# Altium footprint library AD8334ACPZ.PcbLib: 1 footprints
Each footprint in its own frame and in the unit in brackets; x right, y up, seen from the top. Pads: shape width x height; smd on the part's side, far side on the other; paste and mask are expansions set on the pad; w line width, h text height; cw(c..) or ccw(c..) is an arc to the next point about the centre after c.
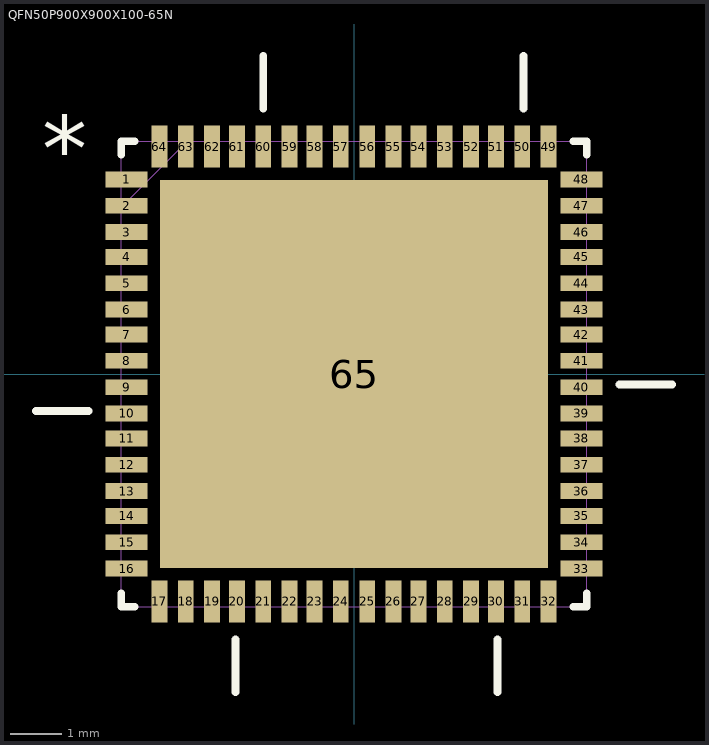
[diagram p0: the footprint, top view; thin cyan lines are the x and y axes]

## QFN50P900X900X100-65N [mil]
pads (65):
  rect 32x12 smd: 1(-173,148) 2(-173,128) 3(-173,108) 4(-173,89) 5(-173,69) 6(-173,49) 7(-173,30) 8(-173,10) 9(-173,-10) 10(-173,-30) 11(-173,-49) 12(-173,-69) 13(-173,-89) 14(-173,-108) 15(-173,-128) 16(-173,-148) 33(173,-148) 34(173,-128) 35(173,-108) 36(173,-89) 37(173,-69) 38(173,-49) 39(173,-30) 40(173,-10) 41(173,10) 42(173,30) 43(173,49) 44(173,69) 45(173,89) 46(173,108) 47(173,128) 48(173,148)
  rect 12x32 smd: 17(-148,-173) 18(-128,-173) 19(-108,-173) 20(-89,-173) 21(-69,-173) 22(-49,-173) 23(-30,-173) 24(-10,-173) 25(10,-173) 26(30,-173) 27(49,-173) 28(69,-173) 29(89,-173) 30(108,-173) 31(128,-173) 32(148,-173) 49(148,173) 50(128,173) 51(108,173) 52(89,173) 53(69,173) 54(49,173) 55(30,173) 56(10,173) 57(-10,173) 58(-30,173) 59(-49,173) 60(-69,173) 61(-89,173) 62(-108,173) 63(-128,173) 64(-148,173)
  rect 295x295 smd: 65(0,0)
Top Overlay:
  lines w6: -242,-28 -202,-28 ; -177,-167 -177,-177 -167,-177 ; -177,167 -177,177 -167,177 ; -90,-242 -90,-202 ; -69,202 -69,242 ; 109,-242 109,-202 ; 129,202 129,242 ; 167,-177 177,-177 177,-167 ; 167,177 177,177 177,167 ; 202,-8 242,-8
  text "*" at -237,147 h50
Mechanical 13:
  lines w0: -177,-154 -177,-142 ; -177,-134 -177,-122 ; -177,-114 -177,-102 ; -177,-94 -177,-83 ; -177,-75 -177,-63 ; -177,-55 -177,-43 ; -177,-35 -177,-24 ; -177,-16 -177,-4 ; -177,4 -177,16 ; -177,24 -177,35 ; -177,43 -177,55 ; -177,63 -177,75 ; -177,83 -177,94 ; -177,102 -177,114 ; -177,122 -177,134 ; -177,127 -127,177 ; -177,142 -177,154 ; -154,-177 -142,-177 ; -154,177 -142,177 ; -134,-177 -122,-177 ; -134,177 -122,177 ; -114,-177 -102,-177 ; -114,177 -102,177 ; -94,-177 -83,-177 ; -94,177 -83,177 ; -75,-177 -63,-177 ; -75,177 -63,177 ; -55,-177 -43,-177 ; -55,177 -43,177 ; -35,-177 -24,-177 ; -35,177 -24,177 ; -16,-177 -4,-177 ; -16,177 -4,177 ; 4,-177 16,-177 ; 4,177 16,177 ; 24,-177 35,-177 ; 24,177 35,177 ; 43,-177 55,-177 ; 43,177 55,177 ; 63,-177 75,-177 ; 63,177 75,177 ; 83,-177 94,-177 ; 83,177 94,177 ; 102,-177 114,-177 ; 102,177 114,177 ; 122,-177 134,-177 ; 122,177 134,177 ; 142,-177 154,-177 ; 142,177 154,177 ; 177,-154 177,-142 ; 177,-134 177,-122 ; 177,-114 177,-102 ; 177,-94 177,-83 ; 177,-75 177,-63 ; 177,-55 177,-43 ; 177,-35 177,-24 ; 177,-16 177,-4 ; 177,4 177,16 ; 177,24 177,35 ; 177,43 177,55 ; 177,63 177,75 ; 177,83 177,94 ; 177,102 177,114 ; 177,122 177,134 ; 177,142 177,154 ; -177,-177 -177,177 177,177 177,-177 -177,-177
  text "*" at -237,147 h50